# Altium schematic symbol library ERJ-S06F1002V.SchLib: 1 symbol
Pins are listed as number, name and electrical type; pins without a type are passive.

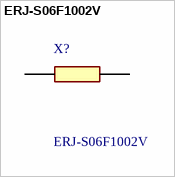
[diagram p0: symbol ERJ-S06F1002V]

## ERJ-S06F1002V
designator X?
Anti-Sulfurated Thick Film Chip Resistor, 0805, 0.125W; Manufacturer_Name: Panasonic; Geometry.Height: 0.7mm; Manufacturer_Part_Number: ERJ-S06F1002V; Mouser Part Number: 667-ERJ-S06F1002V; Mouser Price/Stock: https://www.mouser.co.uk/ProductDetail/Panasonic/ERJ-S06F1002V?qs=Zyl8A9hlmJrx42%2FYnJb0WQ%3D%3D; Arrow Part Number: *; Arrow Price/Stock: *; Datasheet Link: https://industrial.panasonic.com/cdbs/www-data/pdf/RDP0000/AOA0000C334.pdf
footprint RESC2012X70N
pins: 1, 2